# Altium schematic symbol library QUTMS_USBLibrary.SchLib: 1 symbol
Pins are listed as number, name and electrical type; pins without a type are passive.

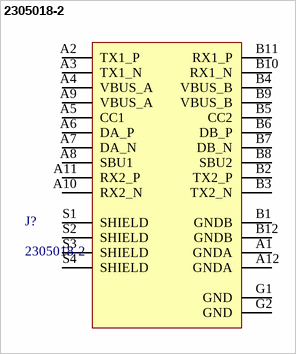
[diagram p0: symbol 2305018-2]

## 2305018-2
designator J?
USB-C (USB TYPE-C) USB 3.2 Gen 2 (USB 3.1 Gen 2, Superspeed + (USB 3.1)) Receptacle Connector 24 Position Surface Mount, Right Angle; Through Hole
footprint 2305018-2
pins: A1 GNDA, A2 TX1_P, A3 TX1_N, A4 VBUS_A, A5 CC1, A6 DA_P, A7 DA_N, A8 SBU1, A9 VBUS_A, A10 RX2_N, A11 RX2_P, A12 GNDA, B1 GNDB, B2 TX2_P, B3 TX2_N, B4 VBUS_B, B5 CC2, B6 DB_P, B7 DB_N, B8 SBU2, B9 VBUS_B, B10 RX1_N, B11 RX1_P, B12 GNDB, G1 GND (power), G2 GND (power), S1 SHIELD (power), S2 SHIELD (power), S3 SHIELD (power), S4 SHIELD (power)